# Altium schematic symbol library Bluepill.SchLib: 1 symbol
Pins are listed as number, name and electrical type; pins without a type are passive.

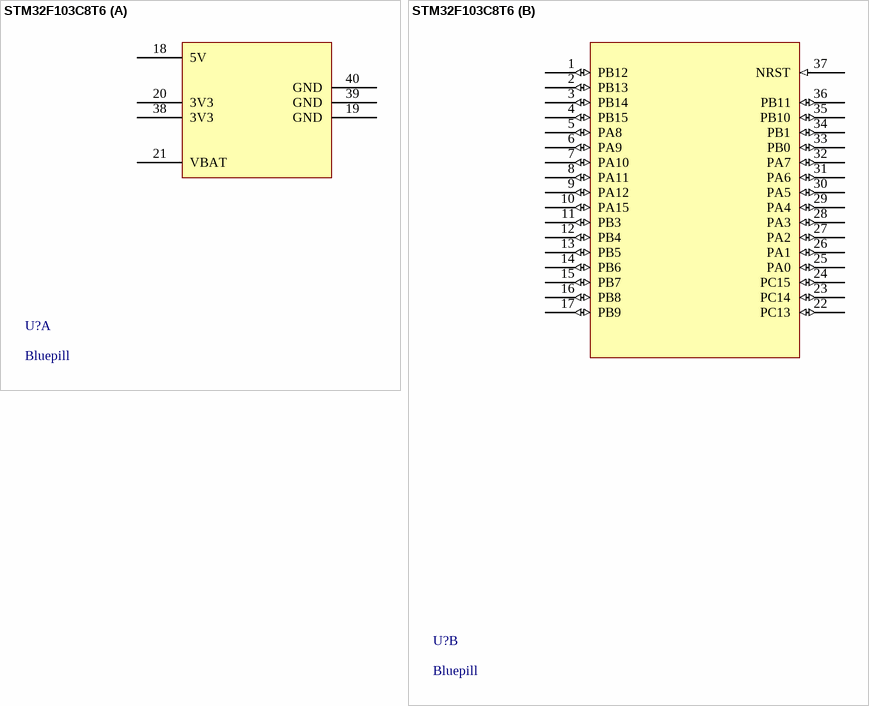
[diagram p0: symbol STM32F103C8T6]

## STM32F103C8T6
designator U?, comment Bluepill
STM32F103C8T6, mbed-Enabled Development Bluepill STM32F1 ARM® Cortex®-M3 MCU 32-Bit Embedded Evaluation Board; Manufacturer: STMicroelectronics; Packgae/Case: LQFP-48; Speed: 74MHz; Connectivity: CANbus, I²C, IrDA, LINbus, SPI, UART/USART, USB; Peripherals: DMA, Motor Control PWM, PDR, POR, PVD, PWM, Temp Sensor, WDT; Number of I/O: 37; Program Memory Size: 64KB; Program Memory Type: FLASH; RAM Size: 24KB; Voltage - Supply: 2V ~ 3.6V; Product Category: ARM Microcontrollers - MCU; Series: STM32F103C8T6; Mounting Style: SMD/SMT; Core Processor: ARM® Cortex®-M3; Core Size: 32-Bit; Operating Temperature: -40°C ~ 85°C; Mounting Type: Surface Mount; ComponentLink1Description: New link; ComponentLink1URL: *
footprint PCBComponent_1
part A pins: 18 5V, 19 GND, 20 3V3, 21 VBAT, 38 3V3, 39 GND, 40 GND
part B pins: 1 PB12 (io), 2 PB13 (io), 3 PB14 (io), 4 PB15 (io), 5 PA8 (io), 6 PA9 (io), 7 PA10 (io), 8 PA11 (io), 9 PA12 (io), 10 PA15 (io), 11 PB3 (io), 12 PB4 (io), 13 PB5 (io), 14 PB6 (io), 15 PB7 (io), 16 PB8 (io), 17 PB9 (io), 22 PC13 (io), 23 PC14 (io), 24 PC15 (io), 25 PA0 (io), 26 PA1 (io), 27 PA2 (io), 28 PA3 (io), 29 PA4 (io), 30 PA5 (io), 31 PA6 (io), 32 PA7 (io), 33 PB0 (io), 34 PB1 (io), 35 PB10 (io), 36 PB11 (io), 37 NRST (in)